# Altium schematic symbol library U-Transducer electric.SCHLIB: 1 symbol
Pins are listed as number, name and electrical type; pins without a type are passive.

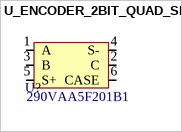
[diagram p0: symbol U_ENCODER_2BIT_QUAD_SPST]

## U_ENCODER_2BIT_QUAD_SPST
designator U?  Type: 290VAA5F201B1  (hidden comment: U_ENCODER_2BIT_QUAD_SPST)
2 Bit Encoder with switch; Supplier - Digikey: CT3010-ND
footprint THT_ENCODER_290VAA5F201B1
pins: 1 A, 2 C, 3 B, 4 S-, 5 S+, 6 CASE